# Altium footprint library DIOAD1300W80L670D310.PcbLib: 2 footprints
Each footprint in its own frame and in the unit in brackets; x right, y up, seen from the top. Pads: shape width x height; smd on the part's side, far side on the other; paste and mask are expansions set on the pad; w line width, h text height; cw(c..) or ccw(c..) is an arc to the next point about the centre after c.
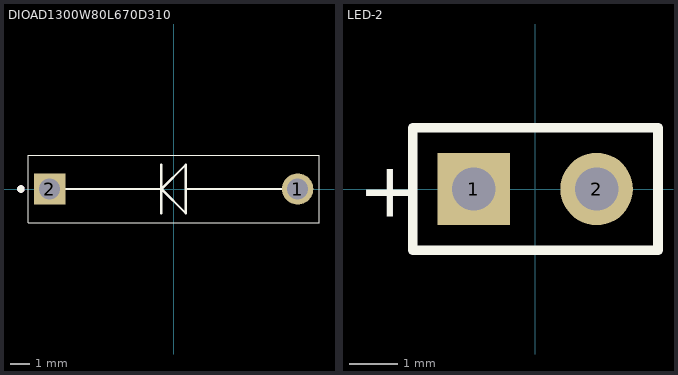
[diagram p0: the footprints below, top view; thin cyan lines are the x and y axes]

## DIOAD1300W80L670D310 [mm]
pads (2):
  round 1.65 hole 1.1: 1(6.5,0)
  rect 1.65x1.65 hole 1.1: 2(-6.5,0)
Top Overlay:
  circle w0.2: c-8,0 r0.1
  lines w0.051: -7.62,-1.778 -7.62,1.778 7.62,1.778 7.62,-1.778 -7.62,-1.778
  lines w0.127: -6.5,0 -5.32,0 -3.35,0 -0.635,0 ; -0.635,1.27 -0.635,-1.27 -0.635,0 ; 0.635,0 3.35,0 5.32,0 6.5,0 ; -0.635,0 0.635,-1.27 0.635,1.27 -0.635,0
Mechanical 13:
  circle w0.2: c-8,0 r0.1
3D body "2M33Z.STEP": height 3.6, standoff -17.1, extent -7.027,-1.733 6.773,1.867

## LED-2 [mm] "Battery; 2 Leads"
pads (2):
  rect 1.5x1.5 hole 0.9: 1(-1.27,0)
  round 1.5 hole 0.9: 2(1.27,0)
Top Overlay:
  lines w0.2: -2.54,-1.27 -2.54,1.27 2.54,1.27 2.54,-1.27 -2.54,-1.27
  text "+" at -3.67,-0.577 h1.15
3D body "WP7113ID--3DModel-STEP-510211.STEP": height 9.6, standoff -26, extent -2.5,-3.077 2.95,2.823